# EAGLE library part MUP_C7808 (library MUP_C7808)
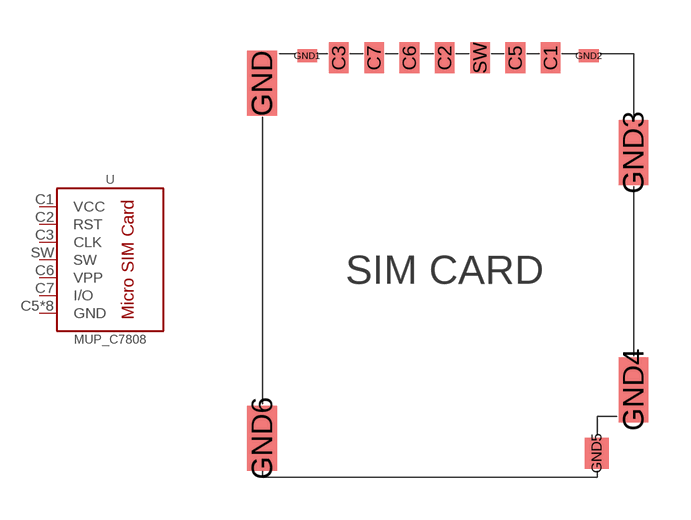
[diagram p0: symbol with the pads of MUP_C7808; footprint MUP_C7808]

Designator prefix U

## MUP_C7808  [MUP_C7808]
C1  VCC  pas
C2  RST  pas
C3  CLK  pas
C5  GND  pas
C6  VPP  pas
C7  I/O  pas
GND  GND  pas
GND1  GND  pas
GND2  GND  pas
GND3  GND  pas
GND4  GND  pas
GND5  GND  pas
GND6  GND  pas
SW  SW  pas

## Footprint MUP_C7808 (pad centres in mm)
smd 0.7 x 1.1: C1 10.25,14.9; C2 6.5,14.9; C3 2.75,14.9; C5 9,14.9; C6 5.25,14.9; C7 4,14.9; SW 7.75,14.9
smd 1.05 x 2.3: GND 0.03,14; GND3 13.18,11.55; GND4 13.18,3.15; GND6 0.03,1.43
smd 0.7 x 0.45: GND1 1.63,14.975; GND2 11.6,14.975
smd 0.85 x 1.1: GND5 11.88,0.9